# EAGLE library part SIM8055-6-1-14-01-A (library SIM8055-6-1-14-01-A)
Memory Card Connectors Nano SIM Card Connector,Push-Pull Type, 6 PIN, SMT, with normally open card detection switch, Profile 1.35mm, with location post Source: Datasheet <https://gct.co/connector/sim8055>
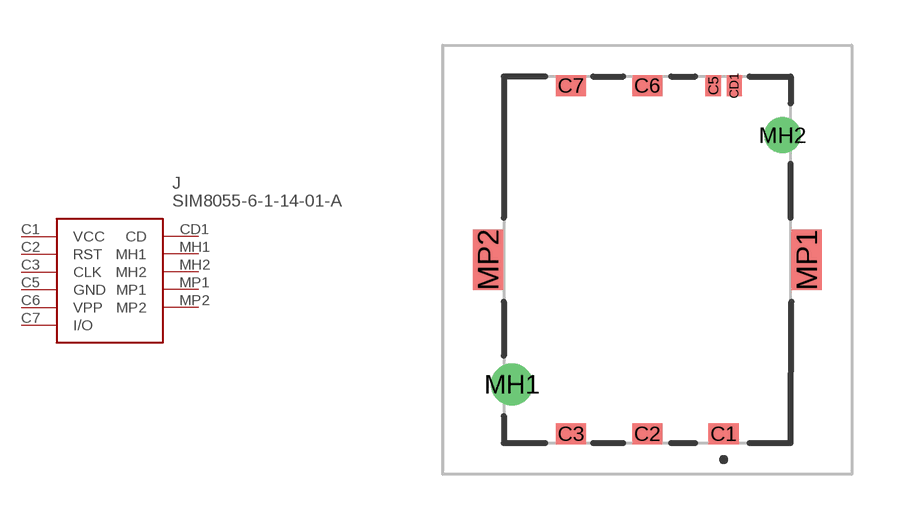
[diagram p0: symbol with the pads of SIM8055611401A; footprint SIM8055611401A]

Designator prefix J

## SIM8055-6-1-14-01-A (Description: Memory Card Connectors Nano SIM Card Connector,Push-Pull Type, 6 PIN, SMT, with normally open card detection switch, Profile 1.35mm, with location post; Height: mm; Manufacturer_Name: GCT (GLOBAL CONNECTOR TECHNOLOGY); Manufacturer_Part_Number: SIM8055-6-1-14-01-A; Mouser_Part_Number: 640-SIM8055611401A; Mouser_Price-Stock: https://www.mouser.co.uk/ProductDetail/GCT/SIM8055-6-1-14-01-A?qs=KUoIvG%2F9Ilbi5BaFCOA%2Fkg%3D%3D)  [SIM8055611401A]
C1  VCC
C2  RST
C3  CLK
C5  GND
C6  VPP
C7  I/O
CD1  CD
MH1  MH1
MH2  MH2
MP1  MP1
MP2  MP2

## Footprint SIM8055611401A (pad centres in mm)
SIM8055-6-1-14-01-A-1
smd 1 x 0.7: C1 2.54,-5.795; C2 0,-5.795; C3 -2.54,-5.795; C6 0,5.795; C7 -2.54,5.795
smd 0.5 x 0.7: C5 2.19,5.795; CD1 2.89,5.795
drill 0.9 pad 1.4: MH1 -4.5,-4.15
drill 0.7 pad 1.2: MH2 4.5,4.15
smd 1 x 2: MP1 5.3,0; MP2 -5.3,0